# Altium integrated library littlefuse.IntLib: 1 symbol
Pins are listed as number, name and electrical type; pins without a type are passive.

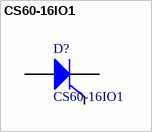
[diagram p0: symbol CS60-16IO1]

## CS60-16IO1
designator D?
THYRISTOR PHASE 1600V ISOPLUS247
footprint TO-247P
pins: 1 K, 2 A, 3 G